# Altium footprint library PH1-04-UA.PcbLib: 1 footprints
Each footprint in its own frame and in the unit in brackets; x right, y up, seen from the top. Pads: shape width x height; smd on the part's side, far side on the other; paste and mask are expansions set on the pad; w line width, h text height; cw(c..) or ccw(c..) is an arc to the next point about the centre after c.
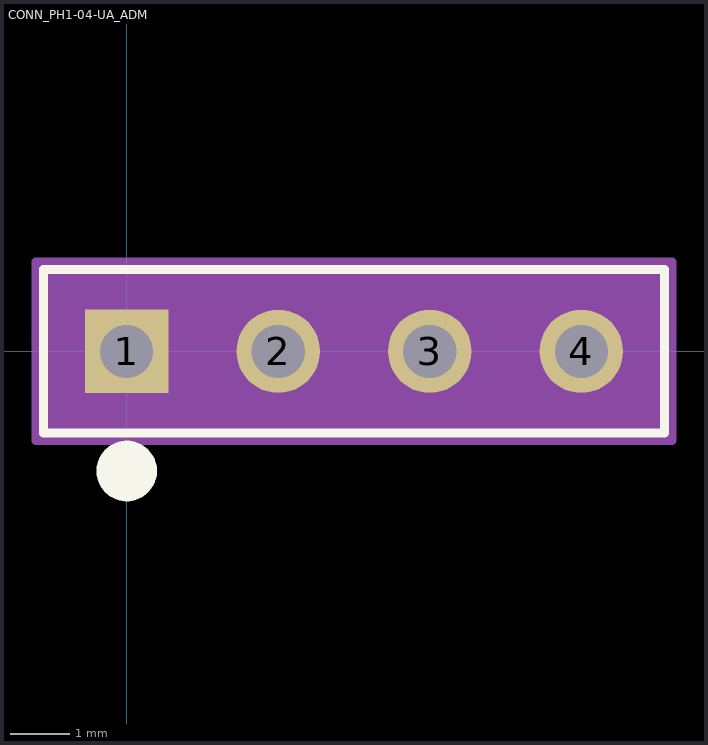
[diagram p0: the footprint, top view; thin cyan lines are the x and y axes]

## CONN_PH1-04-UA_ADM [mil]
pads (4):
  rect 55x55 / inner round 60 / far side rect 55x55 hole 35 paste-27.5 mask+0: 1(0,0)
  round 55 / inner round 60 / far side round 55 hole 35 paste-27.5 mask+0: 2(100,0) 3(200,0) 4(300,0)
Top Overlay:
  circle w20: c0,-79 r10
  lines w6: -55,-54 355,-54 355,54 -55,54 -55,-54
Mechanical 13:
  circle w0: c0,-34 r10
  lines w1: -50,-49 350,-49 350,49 -50,49 -50,-49
Mechanical 15:
  region: 360,59 -60,59 -60,-59 360,-59
  lines w6: -60,-59 -60,59 360,59 360,-59 -60,-59
3D body "CONN_PH1-04-UA_ADM.step": height 334.02, standoff -200, extent -50,-49.02 350,49.02